# Altium footprint library LTST-C195KGJRKT.PcbLib: 1 footprints
Each footprint in its own frame and in the unit in brackets; x right, y up, seen from the top. Pads: shape width x height; smd on the part's side, far side on the other; paste and mask are expansions set on the pad; w line width, h text height; cw(c..) or ccw(c..) is an arc to the next point about the centre after c.
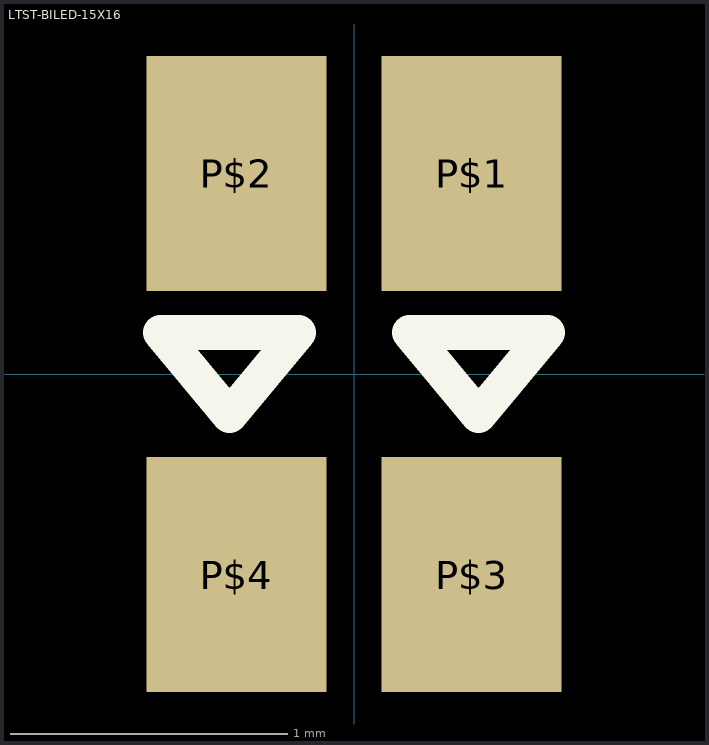
[diagram p0: the footprint, top view; thin cyan lines are the x and y axes]

## LTST-BILED-15X16 [mm]
pads (4):
  rect 0.65x0.85 smd: P$1(0.425,0.725) P$2(-0.425,0.725) P$3(0.425,-0.725) P$4(-0.425,-0.725)
Top Overlay:
  lines w0.127: -0.7,0.15 -0.45,-0.15 -0.2,0.15 -0.7,0.15 ; 0.2,0.15 0.45,-0.15 0.7,0.15 0.2,0.15
3D body "step_temp.STEP": height 0.55, standoff 0, extent -0.75,-0.8 0.75,0.8